# EAGLE library part SN74LVC1G332 (library NikodemBartnik)
3 input or gate by Texas Instruments SN74LVC1G332DBVR 74LVC 10μA 1.65V ~ 5.5V 1 ORGate 3 SOT-23-6 Gates ROHS
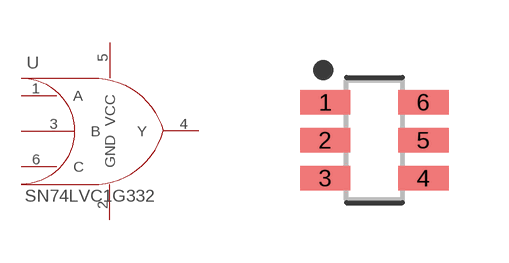
[diagram p6: symbol with the pads of SOT95P280X110-6N; footprint SOT95P280X110-6N]

Designator prefix -

## SN74LVC1G332SOT23_SN74LVC1G332  [SOT95P280X110-6N]
1  A
2  GND
3  B
4  Y
5  VCC
6  C

## Footprint SOT95P280X110-6N (pad centres in mm)
6-SOT23, 0.95 mm pitch, 2.80 mm span, 2.90 X 1.30 X 1.10 mm body 6-pin SOT23 package with 0.95 mm pitch, 2.80 mm span with body size 2.90 X 1.30 X 1.10 mm
smd 1.259 x 0.609: 1 -1.228,0.95; 2 -1.228,0; 3 -1.228,-0.95; 4 1.228,-0.95; 5 1.228,0; 6 1.228,0.95